# Altium schematic symbol library Encoder.SchLib: 9 symbols
Pins are listed as number, name and electrical type; pins without a type are passive.

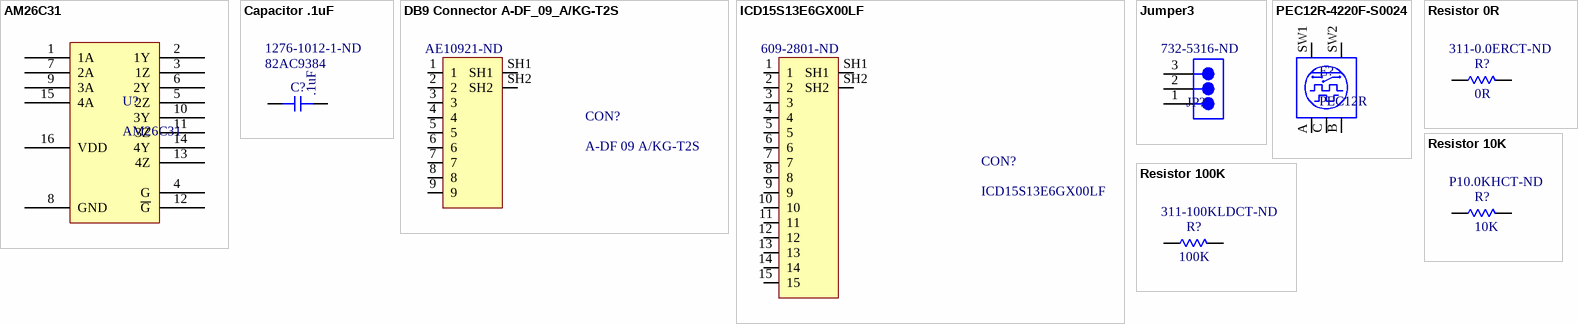
[diagram p0: symbols AM26C31 to Resistor 100K]

## AM26C31
designator U?
IC DRIVER 4/0 16TSSOP; Supplier 1: Digi-Key; Supplier Part Number 1: 296-30087-1-ND
footprint AM26C31 (SOIC, 16-Leads, Body 10.20x5.30mm, Pitch 1.27mm, IPC Medium Density)
pins: 1 1A, 2 1Y, 3 1Z, 4 G, 5 2Z, 6 2Y, 7 2A, 8 GND, 9 3A, 10 3Y, 11 3Z, 12 ~{G}, 13 4Z, 14 4Y, 15 4A, 16 VDD

## Capacitor .1uF
designator C?  Supplier Part Number 1: 82AC9384  Supplier Part Number 2: 1276-1012-1-ND  (hidden comment: *)
Capacitor; Supplier 1: Newark; Supplier 2: Digi-Key
footprint .1uF Capacitor (0603-CAP)
pins: 1, 2
text: .1uF

## DB9 Connector A-DF_09_A/KG-T2S
designator CON?, comment A-DF 09 A/KG-T2S  Supplier Part Number 1: AE10921-ND
9 Position D-Sub Receptacle, Female Sockets Connector; MF: Assmann WSW; SnapEDA_Link: https://www.snapeda.com/parts/A-DF%2009%20A/KG-T2S/Assmann%20WSW%20Components/view-part/2761262/?ref=snap; Availability: Unavailable; MP: A-DF 09 A/KG-T2S; Check_prices: https://www.snapeda.com/parts/A-DF%2009%20A/KG-T2S/Assmann%20WSW%20Components/view-part/2761262/?ref=eda; Price: None; Value: *; Package: None; Supplier 1: Digi-Key
footprint DB9 Connector (ASSMANN_A-DF09A/KG-T2S)
pins: 1, 2, 3, 4, 5, 6, 7, 8, 9, SH1, SH2

## ICD15S13E6GX00LF
designator CON?  Supplier Part Number 1: 609-2801-ND
CONN D-SUB PLUG 15POS R/A SLDR; Supplier 1: Digi-Key
footprint ICD15S (CONN DSUB HD RCPT 15POS R/A SLDR)
pins: 1, 2, 3, 4, 5, 6, 7, 8, 9, 10, 11, 12, 13, 14, 15, SH1, SH2

## Jumper3
designator JP?  Supplier Part Number 1: 732-5316-ND  (hidden comment: *)
Supplier 1: Digi-Key
footprint PIN_HEADER_1X3
pins: 1 76, 2 75, 3 75

## PEC12R-4220F-S0024
designator E?, comment PEC12R
Supplier 1: Digi-Key; Supplier Part Number 1: PEC12R-4220F-S0024-ND
footprint Encoder (PEC12R-4220F-S0024)
pins: A, B, C, SW1, SW2

## Resistor 0R
designator R?, comment Supplier Part Number 1: 311-0.0ERCT-ND  (hidden comment: Resistor)
Supplier 1: Digi-Key
footprint 0 Resistor (1206-RES) (Chip Resistor, 2-Leads, Body 3.10x1.60mm, IPC Medium Density)
pins: 1, 2
text: 0R

## Resistor 10K
designator R?, comment Supplier Part Number 1: P10.0KHCT-ND  (hidden comment: Resistor)
Supplier 1: Digi-Key
footprint 10K Resistor (0603-RES)
pins: 1, 2
text: 10K

## Resistor 100K
designator R?, comment Supplier Part Number 1: 311-100KLDCT-ND  (hidden comment: Resistor)
Supplier 1: Digi-Key
footprint 100K Resistor (0603-RES)
pins: 1, 2
text: 100K